# Altium footprint library Transistors.PcbLib: 5 footprints
Each footprint in its own frame and in the unit in brackets; x right, y up, seen from the top. Pads: shape width x height; smd on the part's side, far side on the other; paste and mask are expansions set on the pad; w line width, h text height; cw(c..) or ccw(c..) is an arc to the next point about the centre after c.
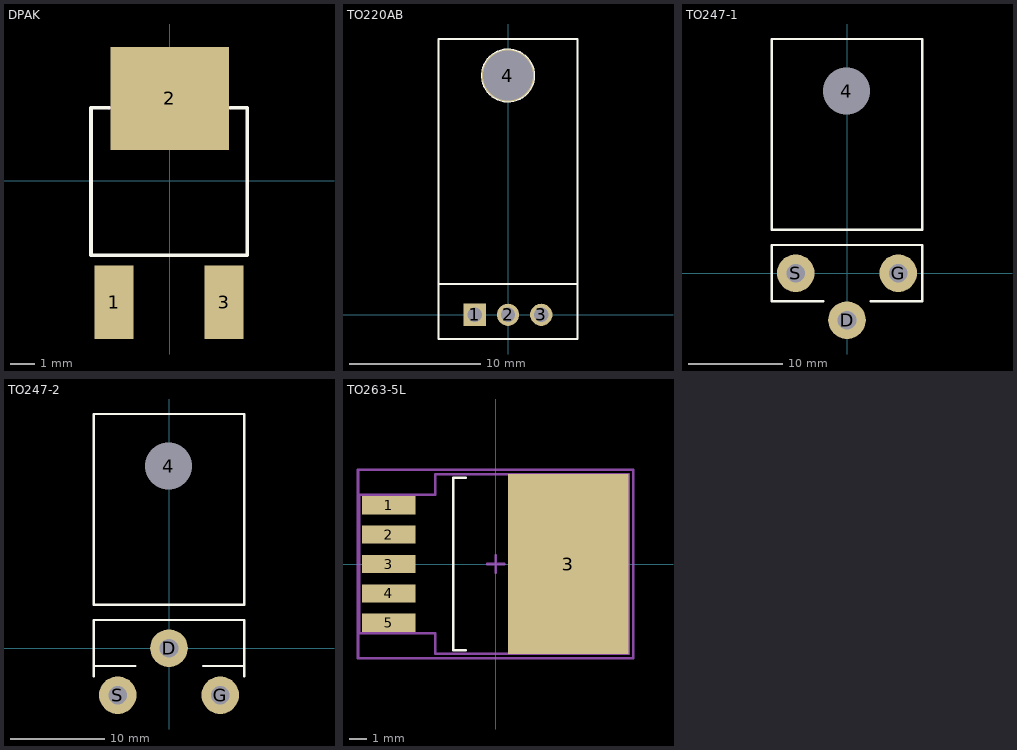
[diagram p0: the footprints below, top view; thin cyan lines are the x and y axes]

## DPAK [mil]
pads (3):
  rect 63x118 smd: 1(-89,-194) 3(87,-194)
  rect 190x165 smd: 2(0,132)
Top Overlay:
  lines w6: -97,117 -126,117 -126,-119 124,-119 124,117 97,117
Mechanical 13:
  lines w6: -97,117 97,117
  lines w40: -68,139 67,139
  text "4" at -13,85.01 h24
3D body "TN1515-600B.STEP": height 94.49, standoff -9.06, extent -128.74,-224.05 128.74,164.73

## TO220AB [mm]
pads (4):
  rect 1.7x1.7 hole 1.1: 1(-2.54,0)
  round 1.7 hole 1.1: 2(0,0) 3(2.54,0)
  round 4 hole 3.8 unplated: 4(0,18.288)
Top Overlay:
  circle w0.15: c0,18.288 r2
  lines w0.15: -5.3,2.35 5.3,2.35 ; -5.3,-1.85 5.3,-1.85 5.3,21.082 -5.3,21.082 -5.3,-1.85
3D body "TO220.STEP": height 4.5, standoff -3.5, extent -5.2,-0.254 5.2,20.846

## TO247-1 [mm]
pads (4):
  round 4 hole 5 unplated: 4(-0.05,19.35)
  round 4 hole 2: D(0,-5) G(5.45,0) S(-5.45,0)
Top Overlay:
  lines w0.254: -2.5,-3 -8,-3 -8,3 8,3 8,-3 2.5,-3 ; -8,4.6 -8,24.9 8,24.9 8,4.6 -8,4.6
3D body "TO-247AC.STEP": height 26.15, standoff -3.84, extent -7.5,-5.2 7.5,3

## TO247-2 [mm]
pads (4):
  round 4 hole 5 unplated: 4(-0.05,19.35)
  round 4 hole 2: D(0,0) G(5.45,-5) S(-5.45,-5)
Top Overlay:
  lines w0.254: -8,-3 -8,3 8,3 8,-3 ; -8,-1.9 -3.6,-1.9 ; 3.639,-1.9 8,-1.9 ; -8,4.6 -8,24.9 8,24.9 8,4.6 -8,4.6
3D body "TO-247AC-1.STEP": height 26.15, standoff -3.84, extent -7.5,-5.2 7.5,3

## TO263-5L [mm]
pads (6):
  rect 3.1x1.05 smd: 1(-6.2,3.4) 2(-6.2,1.7) 3(-6.2,0) 4(-6.2,-1.7) 5(-6.2,-3.4)
  rect 7x10.4 smd: 3(4.2,0)
Top Overlay:
  lines w0.15: -1.75,-5 -2.45,-5 -2.45,5 -1.75,5
  text "." at -6.055,4.459 h0.1
Top Courtyard:
  lines w0.15: -0.5,0 0.5,0 ; 0,-0.5 0,0.5 ; -7.975,-5.45 -7.975,5.45 7.975,5.45 7.975,-5.45 -7.975,-5.45 ; -7.9,-4 -7.9,0 -7.9,4 -3.5,4 -3.5,5.2 7.7,5.2 7.7,0 7.7,-5.2 -3.5,-5.2 -3.5,-4 -7.9,-4
3D body "TO263-5L.step": height 4.6, standoff 0, extent -6.665,-5.05 7.685,5.05